# Altium footprint library PEC12R.PcbLib: 1 footprints
Each footprint in its own frame and in the unit in brackets; x right, y up, seen from the top. Pads: shape width x height; smd on the part's side, far side on the other; paste and mask are expansions set on the pad; w line width, h text height; cw(c..) or ccw(c..) is an arc to the next point about the centre after c.
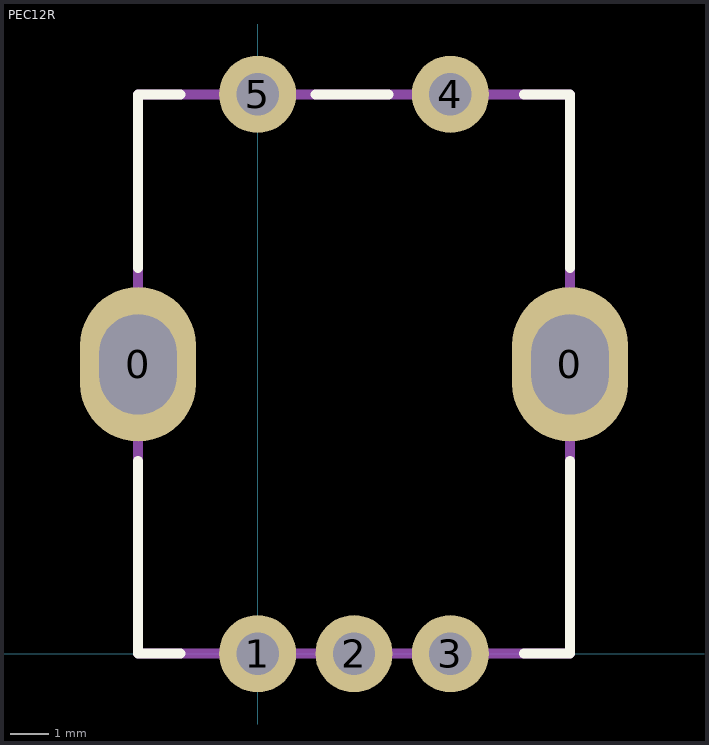
[diagram p0: the footprint, top view; thin cyan lines are the x and y axes]

## PEC12R [mm] "Энкодер"
pads (7):
  oval 3x4 hole 2 slot 2.6 at 90 deg: 0(-3.1,7.5) 0(8.1,7.5)
  round 2 hole 1.1 paste+0: 1(0,0) 2(2.5,0) 3(5,0) 4(5,14.5) 5(0,14.5)
Top Overlay:
  lines w0.254: -3.1,5 -3.1,0 -2,0 ; -3.1,10 -3.1,14.5 -2,14.5 ; 1.5,14.5 3.4,14.5 ; 6.9,0 8.1,0 8.1,5 ; 6.9,14.5 8.1,14.5 8.1,10
TopAssy:
  lines w0.254: -3.1,0 -3.1,7.5 -3.1,14.5 8.1,14.5 8.1,0 -3.1,0
3D body "69074.stp": height 20, standoff -3.5, extent -4.5,-0.1 9.5,14.65